# EAGLE library part PAC1952-1 (library PAC1954 - Power Monitor)
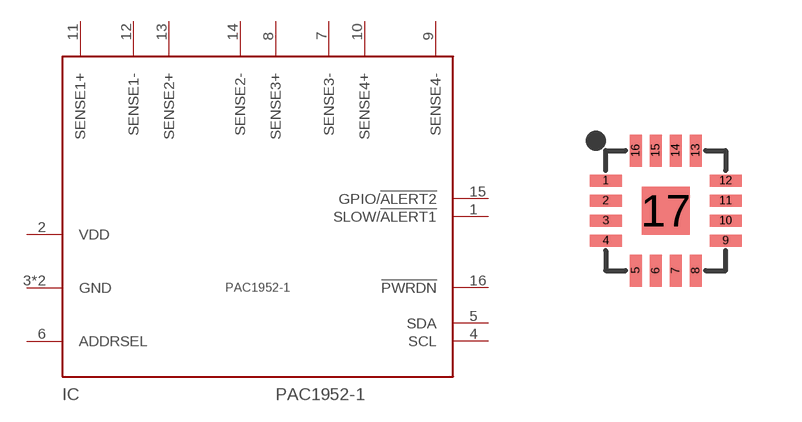
[diagram p1: symbol with the pads of VQFN16; footprint VQFN16]

Designator prefix IC

## PAC1952-1  [VQFN16]
1  SLOW/!ALERT1!
2  VDD  pwr
3  GND  pwr
4  SCL  in
5  SDA
6  ADDRSEL  hiz
7  SENSE3-  hiz
8  SENSE3+  hiz
9  SENSE4-  hiz
10  SENSE4+  hiz
11  SENSE1+  hiz
12  SENSE1-  hiz
13  SENSE2+  hiz
14  SENSE2-  hiz
15  GPIO/!ALERT2!
16  !PWRDN!  in
17  GND  pwr

## Footprint VQFN16 (pad centres in mm)
smd 0.8 x 0.3: 1 -1.5,0.75; 2 -1.5,0.25; 3 -1.5,-0.25; 4 -1.5,-0.75; 9 1.5,-0.75; 10 1.5,-0.25; 11 1.5,0.25; 12 1.5,0.75
smd 0.3 x 0.8: 5 -0.75,-1.5; 6 -0.25,-1.5; 7 0.25,-1.5; 8 0.75,-1.5; 13 0.75,1.5; 14 0.25,1.5; 15 -0.25,1.5; 16 -0.75,1.5
smd 1.2 x 1.2: 17 0,0